# Altium schematic symbol library SI7370.SchLib: 1 symbol
Pins are listed as number, name and electrical type; pins without a type are passive.

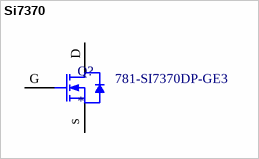
[diagram p0: symbol Si7370]

## Si7370
designator Q?  Supplier Part Number 1: 781-SI7370DP-GE3
N-Channel 60 V (D-S) MOSFET; ComponentLink1Description: Datasheet; ComponentLink1URL: https://www.vishay.com/docs/71874/si7370dp.pdf; Supplier 1: Mouser
footprint Model Name (Footprint not found)
footprint SOIC127P620X112_HS-9N (SOIC, 8-Leads, Body 5.10x6.15mm, Pitch 1.27mm, Thermal Pad 3.91x3.84mm, IPC Medium Density)
pins: D, G, S